# Altium footprint library WCAP-AWG8.PcbLib: 1 footprints
Each footprint in its own frame and in the unit in brackets; x right, y up, seen from the top. Pads: shape width x height; smd on the part's side, far side on the other; paste and mask are expansions set on the pad; w line width, h text height; cw(c..) or ccw(c..) is an arc to the next point about the centre after c.
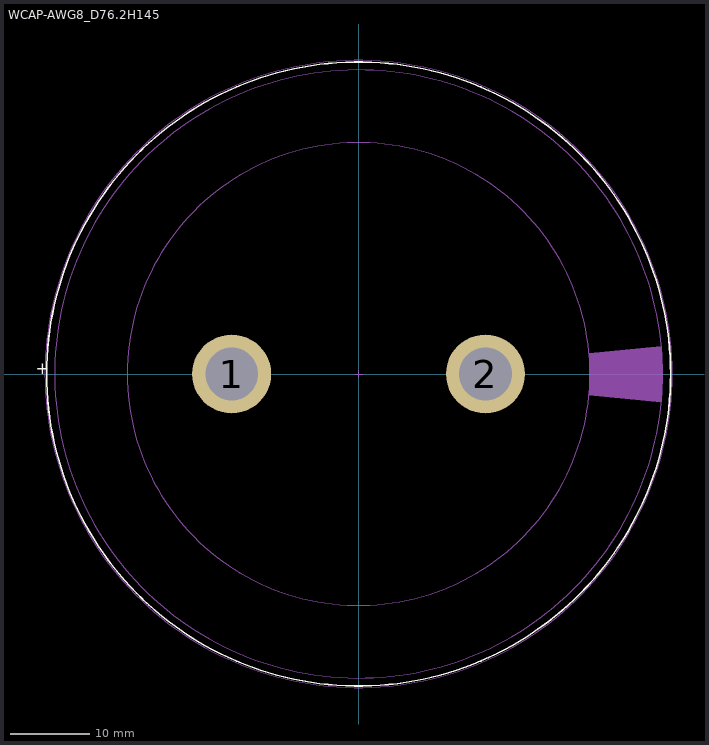
[diagram p0: the footprint, top view; thin cyan lines are the x and y axes]

## WCAP-AWG8_D76.2H145 [mm] "Screw Capacitor"
height 145
pads (2):
  round 9.9 hole 6.6: 1(-15.9,0) 2(15.9,0)
Top Overlay:
  circle w0.2: c0,0 r39.1
  text "+" at -40.45,0 h1.5
Top Assembly:
  circle w0.1: c0,0 r29
  circle w0.1: c0,0 r38.1
  region: 28.884,-2.59 37.939,-3.493 38.02,-2.622 38.1,-0.875 38.1,0.875 38.02,2.622 37.939,3.493 37.94,3.493 28.884,2.59 28.935,1.943 28.993,0.648 28.993,-0.648 28.935,-1.943
  lines w0.1: 28.884,-2.59 37.939,-3.493 ; 28.884,2.59 37.939,3.493
Top Designator:
  text ".Designator" at -3.647,-0.357 h1
Top 3D Body:
  circle w0.1: c0,0 r29
  circle w0.1: c0,0 r38.1
  region: 28.884,-2.59 37.939,-3.493 38.02,-2.622 38.1,-0.875 38.1,0.875 38.02,2.622 37.939,3.493 37.94,3.493 28.884,2.59 28.935,1.943 28.993,0.648 28.993,-0.648 28.935,-1.943
  lines w0.1: 28.884,-2.59 37.939,-3.493 ; 28.884,2.59 37.939,3.493
Top Courtyard:
  circle w0.05: c0,0 r39.3
Top Component Center:
  lines w0.1: -0.5,0 0.5,0 ; 0,-0.5 0,0.5
3D body "WCAP-AWG8_76,2x220.stp": height 4.81, standoff -227.65, extent -38.1,-38.06 38.1,38.1